# EAGLE library part LOGITECH-DUAL-ACTION-GAMEPAD (library hal-config)
Logitech Dual Action Gamepad Add one device for each gamepad Rename input.1 -> input.0
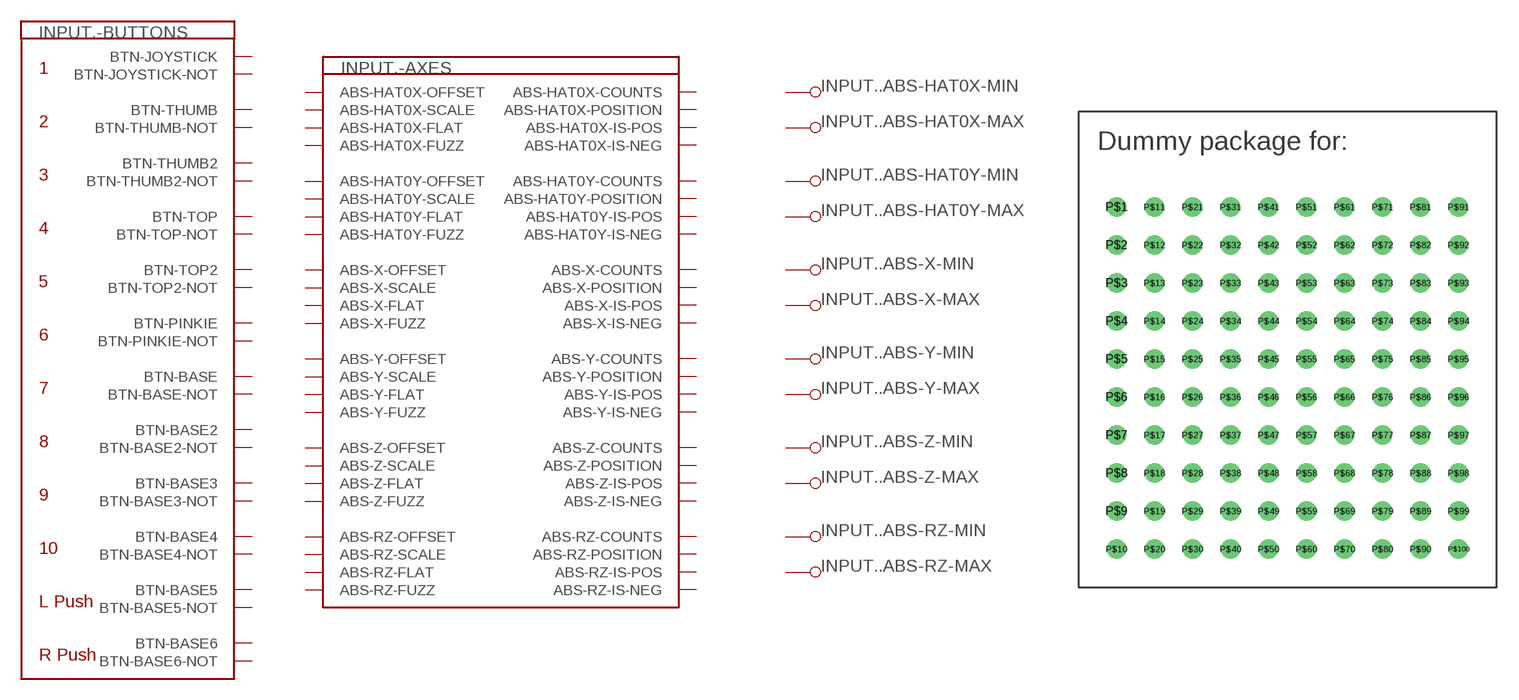
[diagram p17: symbol with the pads of DUMMY; footprint DUMMY]

Designator prefix INPUT.; gates -AXES=LOGITECH-DUAL-ACTION-AXES -BUTTONS=LOGITECH-DUAL-ACTION-BUTTONS .ABS-HAT0X-MIN=PIN_PARAMETER .ABS-HAT0X-MAX=PIN_PARAMETER .ABS-X-MIN=PIN_PARAMETER .ABS-X-MAX=PIN_PARAMETER .ABS-Z-MIN=PIN_PARAMETER .ABS-Z-MAX=PIN_PARAMETER .ABS-HAT0Y-MIN=PIN_PARAMETER .ABS-HAT0Y-MAX=PIN_PARAMETER .ABS-Y-MIN=PIN_PARAMETER .ABS-Y-MAX=PIN_PARAMETER .ABS-RZ-MIN=PIN_PARAMETER .ABS-RZ-MAX=PIN_PARAMETER

## LOGITECH-DUAL-ACTION-GAMEPAD  [DUMMY]
P$1  -AXES:ABS-HAT0X-COUNTS  out
P$2  -AXES:ABS-HAT0X-FLAT  in
P$3  -AXES:ABS-HAT0X-FUZZ  in
P$4  -AXES:ABS-HAT0X-IS-NEG  out
P$5  -AXES:ABS-HAT0X-IS-POS  out
P$6  -AXES:ABS-HAT0X-OFFSET  in
P$7  -AXES:ABS-HAT0X-POSITION  out
P$8  -AXES:ABS-HAT0X-SCALE  in
P$9  -AXES:ABS-HAT0Y-COUNTS  out
P$10  -AXES:ABS-HAT0Y-FLAT  in
P$11  -AXES:ABS-HAT0Y-FUZZ  in
P$12  -AXES:ABS-HAT0Y-IS-POS  out
P$13  -AXES:ABS-HAT0Y-OFFSET  in
P$14  -AXES:ABS-HAT0Y-POSITION  out
P$15  -AXES:ABS-HAT0Y-SCALE  in
P$16  -AXES:ABS-HAT0Y-IS-NEG  out
P$17  -AXES:ABS-RZ-COUNTS  out
P$18  -AXES:ABS-RZ-FLAT  in
P$19  -AXES:ABS-RZ-FUZZ  in
P$20  -AXES:ABS-RZ-IS-NEG  out
P$21  -AXES:ABS-RZ-IS-POS  out
P$22  -AXES:ABS-RZ-OFFSET  in
P$23  -AXES:ABS-RZ-POSITION  out
P$24  -AXES:ABS-RZ-SCALE  in
P$25  -AXES:ABS-X-COUNTS  out
P$26  -AXES:ABS-X-FLAT  in
P$27  -AXES:ABS-X-FUZZ  in
P$28  -AXES:ABS-X-IS-NEG  out
P$29  -AXES:ABS-X-IS-POS  out
P$30  -AXES:ABS-X-OFFSET  in
P$31  -AXES:ABS-X-POSITION  out
P$32  -AXES:ABS-X-SCALE  in
P$33  -AXES:ABS-Y-COUNTS  out
P$34  -AXES:ABS-Y-FLAT  in
P$35  -AXES:ABS-Y-FUZZ  in
P$36  -AXES:ABS-Y-IS-NEG  out
P$37  -AXES:ABS-Y-IS-POS  out
P$38  -AXES:ABS-Y-OFFSET  in
P$39  -AXES:ABS-Y-POSITION  out
P$40  -AXES:ABS-Y-SCALE  in
P$41  -AXES:ABS-Z-COUNTS  out
P$42  -AXES:ABS-Z-FLAT  in
P$43  -AXES:ABS-Z-FUZZ  in
P$44  -AXES:ABS-Z-IS-NEG  out
P$45  -AXES:ABS-Z-IS-POS  out
P$46  -AXES:ABS-Z-OFFSET  in
P$47  -AXES:ABS-Z-POSITION  out
P$48  -AXES:ABS-Z-SCALE  in
P$49  -BUTTONS:BTN-BASE  out
P$50  -BUTTONS:BTN-BASE-NOT  out
P$51  -BUTTONS:BTN-BASE2  out
P$52  -BUTTONS:BTN-BASE2-NOT  out
P$53  -BUTTONS:BTN-BASE3  out
P$54  -BUTTONS:BTN-BASE3-NOT  out
P$55  -BUTTONS:BTN-BASE4  out
P$56  -BUTTONS:BTN-BASE4-NOT  out
P$57  -BUTTONS:BTN-BASE5  out
P$58  -BUTTONS:BTN-BASE5-NOT  out
P$59  -BUTTONS:BTN-BASE6  out
P$60  -BUTTONS:BTN-BASE6-NOT  out
P$61  -BUTTONS:BTN-JOYSTICK  out
P$62  -BUTTONS:BTN-JOYSTICK-NOT  out
P$63  -BUTTONS:BTN-PINKIE  out
P$64  -BUTTONS:BTN-PINKIE-NOT  out
P$65  -BUTTONS:BTN-THUMB  out
P$66  -BUTTONS:BTN-THUMB-NOT  out
P$67  -BUTTONS:BTN-THUMB2  out
P$68  -BUTTONS:BTN-THUMB2-NOT  out
P$69  -BUTTONS:BTN-TOP  out
P$70  -BUTTONS:BTN-TOP-NOT  out
P$71  -BUTTONS:BTN-TOP2  out
P$72  -BUTTONS:BTN-TOP2-NOT  out
P$73  .ABS-HAT0X-MAX:PIN_PARAMETER
P$74  .ABS-HAT0X-MIN:PIN_PARAMETER
P$75  .ABS-HAT0Y-MAX:PIN_PARAMETER
P$76  .ABS-HAT0Y-MIN:PIN_PARAMETER
P$77  .ABS-RZ-MAX:PIN_PARAMETER
P$78  .ABS-RZ-MIN:PIN_PARAMETER
P$79  .ABS-X-MAX:PIN_PARAMETER
P$80  .ABS-X-MIN:PIN_PARAMETER
P$81  .ABS-Y-MAX:PIN_PARAMETER
P$82  .ABS-Y-MIN:PIN_PARAMETER
P$83  .ABS-Z-MAX:PIN_PARAMETER
P$84  .ABS-Z-MIN:PIN_PARAMETER

## Footprint DUMMY (pad centres in mm)
drill 0.8: P$1 0,-1.27; P$2 0,-3.81; P$3 0,-6.35; P$4 0,-8.89; P$5 0,-11.43; P$6 0,-13.97; P$7 0,-16.51; P$8 0,-19.05; P$9 0,-21.59; P$10 0,-24.13; P$11 2.54,-1.27; P$12 2.54,-3.81; P$13 2.54,-6.35; P$14 2.54,-8.89; P$15 2.54,-11.43; P$16 2.54,-13.97; P$17 2.54,-16.51; P$18 2.54,-19.05; P$19 2.54,-21.59; P$20 2.54,-24.13; P$21 5.08,-1.27; P$22 5.08,-3.81; P$23 5.08,-6.35; P$24 5.08,-8.89; P$25 5.08,-11.43; P$26 5.08,-13.97; P$27 5.08,-16.51; P$28 5.08,-19.05; P$29 5.08,-21.59; P$30 5.08,-24.13; P$31 7.62,-1.27; P$32 7.62,-3.81; P$33 7.62,-6.35; P$34 7.62,-8.89; P$35 7.62,-11.43; P$36 7.62,-13.97; P$37 7.62,-16.51; P$38 7.62,-19.05; P$39 7.62,-21.59; P$40 7.62,-24.13; P$41 10.16,-1.27; P$42 10.16,-3.81; P$43 10.16,-6.35; P$44 10.16,-8.89; P$45 10.16,-11.43; P$46 10.16,-13.97; P$47 10.16,-16.51; P$48 10.16,-19.05; P$49 10.16,-21.59; P$50 10.16,-24.13; P$51 12.7,-1.27; P$52 12.7,-3.81; P$53 12.7,-6.35; P$54 12.7,-8.89; P$55 12.7,-11.43; P$56 12.7,-13.97; P$57 12.7,-16.51; P$58 12.7,-19.05; P$59 12.7,-21.59; P$60 12.7,-24.13; P$61 15.24,-1.27; P$62 15.24,-3.81; P$63 15.24,-6.35; P$64 15.24,-8.89; P$65 15.24,-11.43; P$66 15.24,-13.97; P$67 15.24,-16.51; P$68 15.24,-19.05; P$69 15.24,-21.59; P$70 15.24,-24.13; P$71 17.78,-1.27; P$72 17.78,-3.81; P$73 17.78,-6.35; P$74 17.78,-8.89; P$75 17.78,-11.43; P$76 17.78,-13.97; P$77 17.78,-16.51; P$78 17.78,-19.05; P$79 17.78,-21.59; P$80 17.78,-24.13; P$81 20.32,-1.27; P$82 20.32,-3.81; P$83 20.32,-6.35; P$84 20.32,-8.89; P$85 20.32,-11.43; P$86 20.32,-13.97; P$87 20.32,-16.51; P$88 20.32,-19.05; P$89 20.32,-21.59; P$90 20.32,-24.13; P$91 22.86,-1.27; P$92 22.86,-3.81; P$93 22.86,-6.35; P$94 22.86,-8.89; P$95 22.86,-11.43; P$96 22.86,-13.97; P$97 22.86,-16.51; P$98 22.86,-19.05; P$99 22.86,-21.59; P$100 22.86,-24.13